# EAGLE library part LM3224 (library IC)
615kHZ/1.25MHz Step-up PWM DC/DC Converter http://www.ti.com/lit/ds/symlink/lm3224.pdf
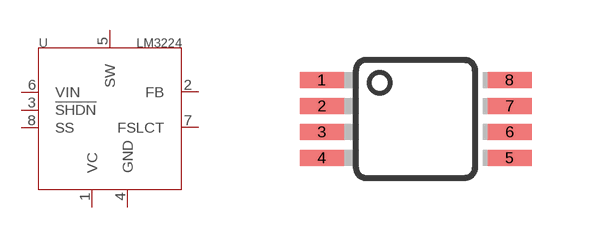
[diagram p26: symbol with the pads of MSOP8; footprint MSOP8]

Designator prefix U

## LM3224-MSOP8  [MSOP8]
1  VC
2  FB
3  !SHDN
4  GND
5  SW
6  VIN
7  FSLCT
8  SS

## Footprint MSOP8 (pad centres in mm)
8M, 8-Lead, 0.118" Wide, Miniature Small Outline Package MSOP 8M-Package doc1097.pdf
smd 1.1 x 0.4: 1 -2.477,0.975; 2 -2.477,0.325; 3 -2.477,-0.325; 4 -2.477,-0.975; 5 2.223,-0.975; 6 2.223,-0.325; 7 2.223,0.325; 8 2.223,0.975